# Altium footprint library SOD-80 MiniMELF.PcbLib: 1 footprints
Each footprint in its own frame and in the unit in brackets; x right, y up, seen from the top. Pads: shape width x height; smd on the part's side, far side on the other; paste and mask are expansions set on the pad; w line width, h text height; cw(c..) or ccw(c..) is an arc to the next point about the centre after c.
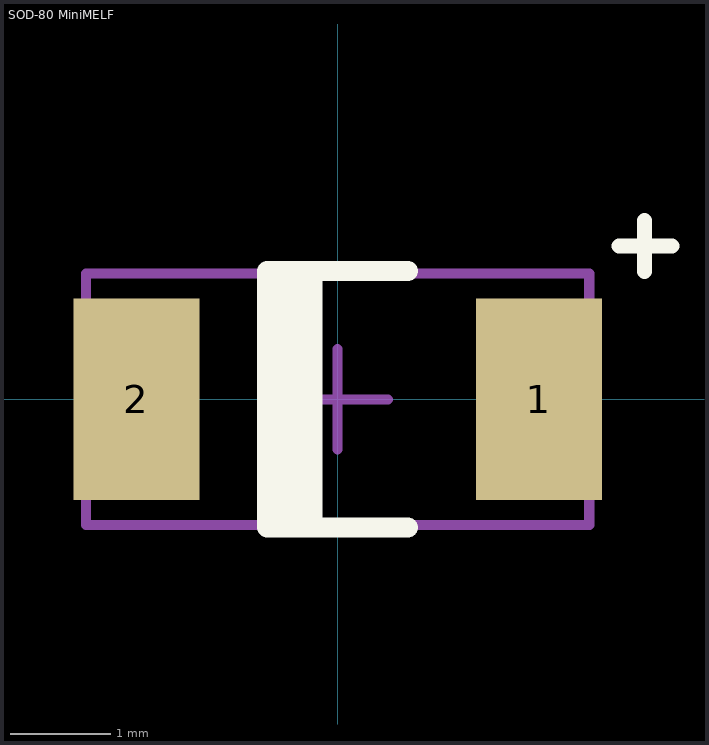
[diagram p0: the footprint, top view; thin cyan lines are the x and y axes]

## SOD-80 MiniMELF [mm]
pads (2):
  rect 1.25x2 smd: 1(2,0) 2(-2,0)
Top Overlay:
  rectangle: -0.7,-1.275 -0.15,1.275
  lines w0.15: 2.794,1.524 3.324,1.524 ; 3.048,1.27 3.048,1.778
  lines w0.2: 0.7,-1.275 -0.7,-1.275 -0.7,1.275 0.7,1.275
Mechanical 13:
  lines w0.1: -2.5,-1.25 -2.5,1.25 2.5,1.25 2.5,-1.25 -2.5,-1.25
Mechanical 15:
  lines w0.1: -0.5,0 0.5,0 ; 0,-0.5 0,0.5
3D body "DO-213AA-RED.stp": height 1.6, standoff 0, extent -1.875,-0.784 1.825,0.787